# Altium schematic symbol library MOLEX_0956224881.SchLib: 1 symbol
Pins are listed as number, name and electrical type; pins without a type are passive.

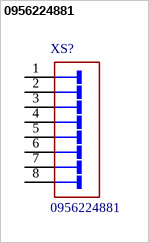
[diagram p0: symbol 0956224881]

## 0956224881
designator XS?
Female Header, Pitch 1.27 mm, 1 x 8 Position, Height 11.5 mm
pins: 1, 2, 3, 4, 5, 6, 7, 8